# EAGLE library part MOLEX-24C-0.5P-FFC (library MOLEX-24C-0.5P-FFC)
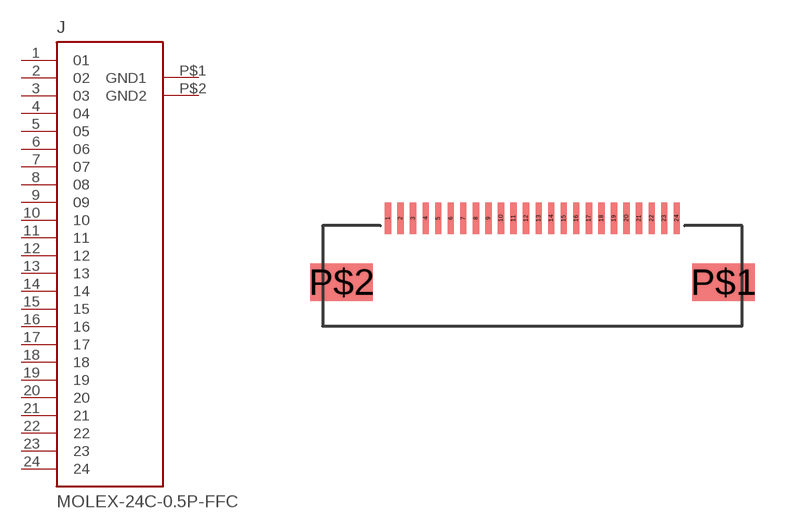
[diagram p0: symbol with the pads of MOLEX-24C-0.5P-FFC; footprint MOLEX-24C-0.5P-FFC]

Designator prefix J

## MOLEX-24C-0.5P-FFC (PARTNUMBER: https://www.digikey.ca/en/products/detail/molex/5052782433/5874879?s=N4IgTCBcDaIKwAY5gOwA4wBYDM2QF0BfIA)  [MOLEX-24C-0.5P-FFC]
1  01  pas
2  02  pas
3  03  pas
4  04  pas
5  05  pas
6  06  pas
7  07  pas
8  08  pas
9  09  pas
10  10  pas
11  11  pas
12  12  pas
13  13  pas
14  14  pas
15  15  pas
16  16  pas
17  17  pas
18  18  pas
19  19  pas
20  20  pas
21  21  pas
22  22  pas
23  23  pas
24  24  pas
P$1  GND1
P$2  GND2

## Footprint MOLEX-24C-0.5P-FFC (pad centres in mm)
smd 0.25 x 1.25: 1 -5.8,2.6; 2 -5.3,2.6; 3 -4.8,2.6; 4 -4.3,2.6; 5 -3.8,2.6; 6 -3.3,2.6; 7 -2.8,2.6; 8 -2.3,2.6; 9 -1.8,2.6; 10 -1.3,2.6; 11 -0.8,2.6; 12 -0.3,2.6; 13 0.2,2.6; 14 0.7,2.6; 15 1.2,2.6; 16 1.7,2.6; 17 2.2,2.6; 18 2.7,2.6; 19 3.2,2.6; 20 3.7,2.6; 21 4.2,2.6; 22 4.7,2.6; 23 5.2,2.6; 24 5.7,2.6
smd 2.5 x 1.5: P$1 7.56,0.05; P$2 -7.65,0.05